# Altium footprint library 2440PCBV5.PcbLib: 136 footprints (part 4 of 9)
Each footprint in its own frame and in the unit in brackets; x right, y up, seen from the top. Pads: shape width x height; smd on the part's side, far side on the other; paste and mask are expansions set on the pad; w line width, h text height; cw(c..) or ccw(c..) is an arc to the next point about the centre after c.
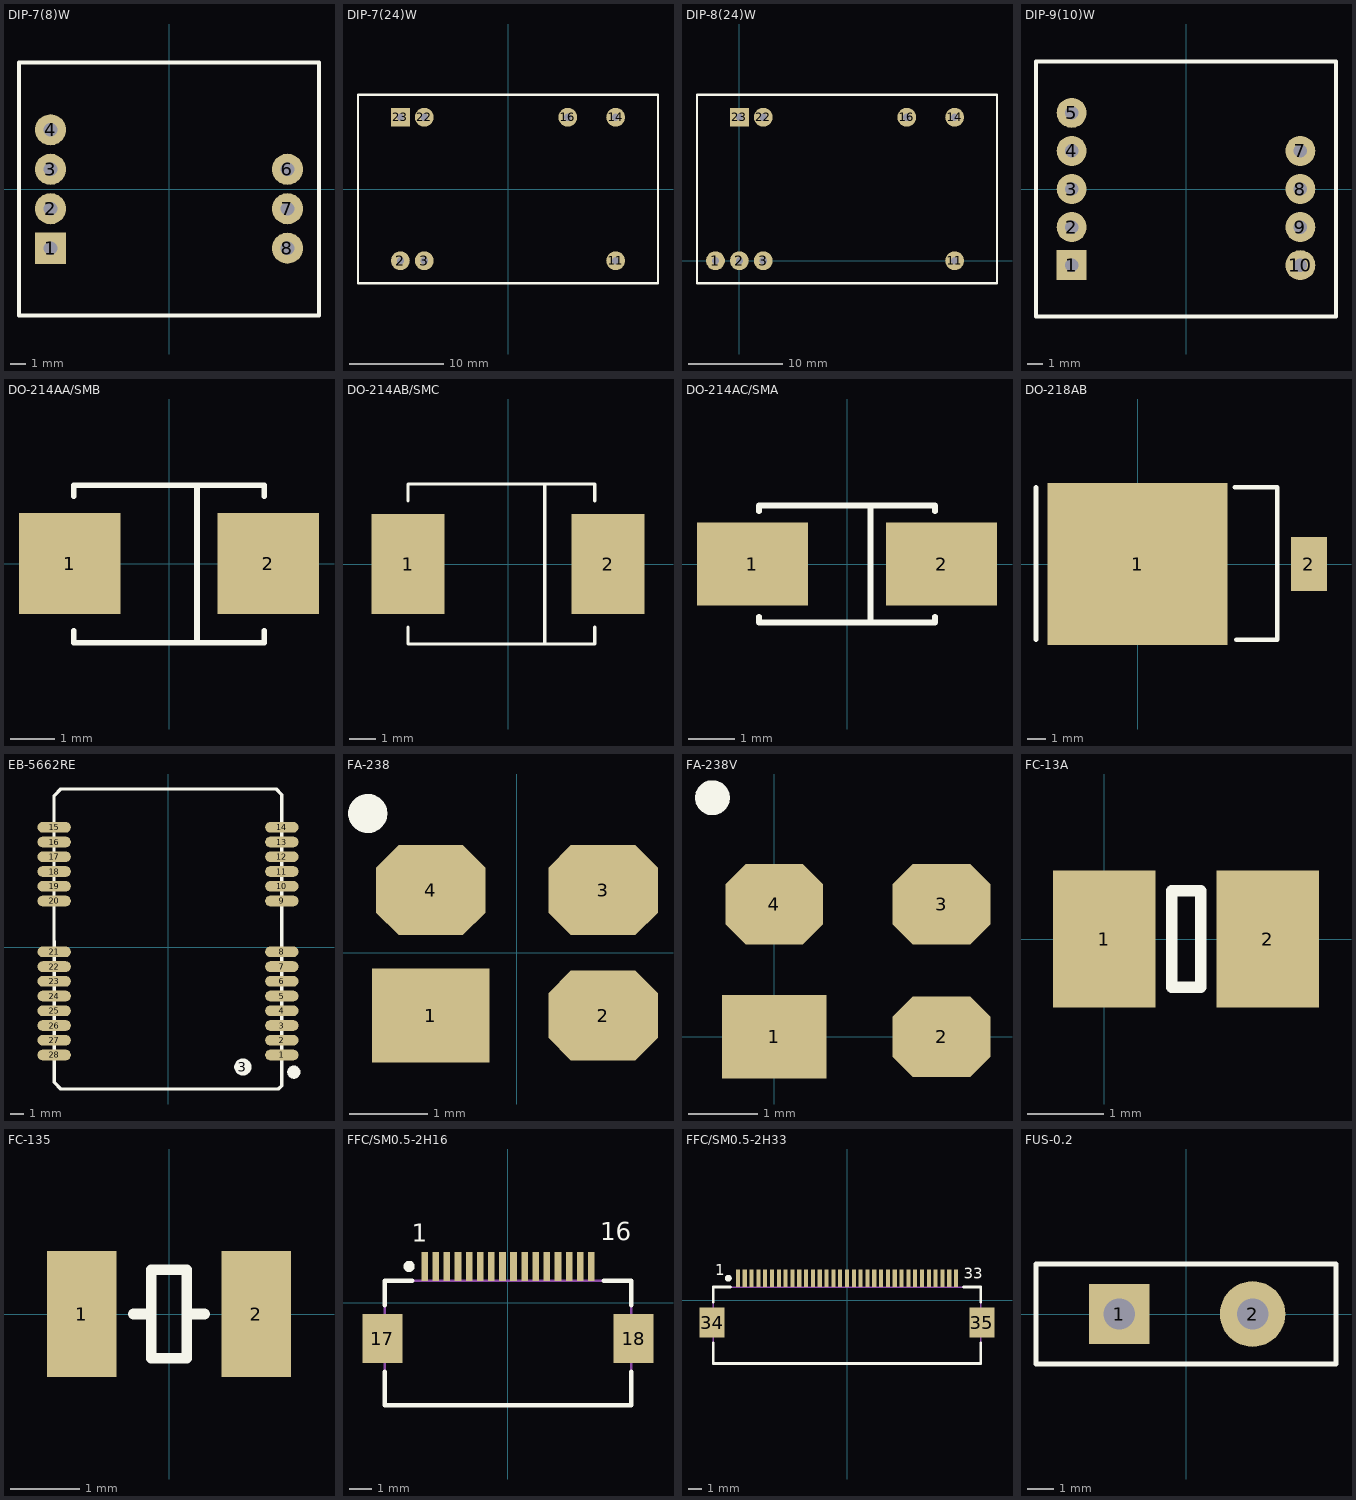
[diagram p3: the footprints below, top view; thin cyan lines are the x and y axes]

## DIP-7(8)W [mm] "DIP; 8 Leads; Row Spacing 15.24 mm; Pitch 2.54 mm"
pads (7):
  rect 2x2 hole 0.889: 1(-7.62,-3.81)
  round 2 hole 0.889: 2(-7.62,-1.27) 3(-7.62,1.27) 4(-7.62,3.81) 6(7.62,1.27) 7(7.62,-1.27) 8(7.62,-3.81)
Top Overlay:
  lines w0.254: -9.652,-8.128 -9.652,8.128 9.652,8.128 9.652,-8.128 -9.652,-8.128
3D body: height 7, standoff 0, extent -9.644,-8.124 9.645,8.151

## DIP-7(24)W [mm]
pads (7):
  round 2 hole 0.762: 2(-11.43,-7.62) 3(-8.89,-7.62) 11(11.43,-7.62) 14(11.43,7.62) 16(6.35,7.62) 22(-8.89,7.62)
  rect 2x2 hole 0.762: 23(-11.43,7.62)
Top Overlay:
  lines w0.254: -15.93,-10.02 -15.93,10.02 15.93,10.02 15.93,-10.02 -15.93,-10.02
Bottom Overlay:
  text "+5V" at 12.446,4.953 h0.8
  text "0V" at 6.985,4.826 h0.8
  text "Vin" at -9.525,4.826 h0.8
  text "GND" at -9.017,-5.715 h0.8
3D body: height 10, standoff 0, extent -15.97,-10.032 15.938,10.048

## DIP-8(24)W [mm]
height 10
pads (8):
  round 2 hole 0.762: 1(-2.54,0) 2(0,0) 3(2.54,0) 11(22.86,0) 14(22.86,15.24) 16(17.78,15.24) 22(2.54,15.24)
  rect 2x2 hole 0.762: 23(0,15.24)
Top Overlay:
  lines w0.254: -4.5,-2.4 -4.5,17.64 27.36,17.64 27.36,-2.4 -4.5,-2.4
Bottom Overlay:
  text "+5V" at 23.876,12.573 h0.8
  text "0V" at 18.415,12.446 h0.8
  text "Vin" at 1.905,12.446 h0.8
  text "GND" at 2.413,1.905 h0.8
3D body: height 10, standoff 0, extent -4.54,-2.412 27.368,17.668

## DIP-9(10)W [mm] "DIP; 10 Leads; Row Spacing 15.24 mm; Pitch 2.54 mm"
height 7.05
pads (9):
  rect 2x2 hole 0.889: 1(-7.62,-5.08)
  round 2 hole 0.889: 2(-7.62,-2.54) 3(-7.62,0) 4(-7.62,2.54) 5(-7.62,5.08) 7(7.62,2.54) 8(7.62,0) 9(7.62,-2.54) 10(7.62,-5.08)
Top Overlay:
  lines w0.254: -10,-8.5 -10,8.5 10,8.5 10,-8.5 -10,-8.5

## DO-214AA/SMB [mm] "DO-214-AA/SMB; 2 C-Bend Leads; Body 5.3 x 3.6 mm, inc. leads (LxW)"
height 2.54
pads (2):
  rect 2.3x2.3 smd: 1(-2.25,0) 2(2.25,0)
Top Overlay:
  lines w0.127: -2.159,-1.524 -2.159,-1.8 2.159,-1.8 2.159,-1.524 ; -2.159,1.524 -2.159,1.778 2.159,1.778 2.159,1.524 ; 0.635,-1.778 0.635,1.778
3D body: height 2.27, standoff -0.03, extent -2.7,-1.8 2.7,1.8

## DO-214AB/SMC [mil] "DO-214-AB/SMC; 2 C-Bend Leads; Body 7.9 x 5.9 mm, inc. leads (LxW)"
height 101.18
pads (2):
  rect 110x150 smd: 1(-150,0) 2(150,0)
Top Overlay:
  lines w5: -150,-95 -150,-120 130,-120 130,-95 ; -150,95 -150,120 130,120 130,95 ; 55,-120 55,120
Mechanical 15:
  lines w1: -150,-120 130,-120 ; -150,120 130,120
3D body: height 50, standoff -54, extent -170.01,-124.01 149.99,123.99

## DO-214AC/SMA [mm] "DO-214-AC/SMA; 2 C-Bend Leads; Body 5 x 2.7 mm, inc. leads (LxW)"
height 2.44
pads (2):
  rect 2.4x1.8 smd: 1(-2.05,0) 2(2.05,0)
Top Overlay:
  lines w0.127: -1.905,-1.143 -1.905,-1.27 1.905,-1.27 1.905,-1.143 ; -1.905,1.143 -1.905,1.27 1.905,1.27 1.905,1.143 ; 0.508,-1.27 0.508,1.27
3D body: height 2.38, standoff -0.03, extent -2.6,-1.3 2.6,1.3

## DO-218AB [mm]
pads (2):
  rect 10x9 smd: 1(0,0)
  rect 2x3 smd: 2(9.5,0)
Top Overlay:
  lines w0.254: -5.626,-4.191 -5.626,4.25 ; 5.393,4.25 7.747,4.25 7.747,-4.191 5.461,-4.191

## EB-5662RE [mm]
pads (30):
  oval 2.5x0.8 smd: 1(8.5,-8.051) 2(8.5,-6.951) 3(8.5,-5.851) 4(8.5,-4.751) 5(8.5,-3.651) 6(8.5,-2.551) 7(8.5,-1.451) 8(8.5,-0.351) 9(8.5,3.449) 10(8.5,4.549) 11(8.5,5.649) 12(8.5,6.749) 13(8.5,7.849) 14(8.5,8.949) 15(-8.5,8.949) 16(-8.5,7.849) 17(-8.5,6.749) 18(-8.5,5.649) 19(-8.5,4.549) 20(-8.5,3.449) 21(-8.5,-0.351) 22(-8.5,-1.451) 23(-8.5,-2.551) 24(-8.5,-3.651) 25(-8.5,-4.751) 26(-8.5,-5.851) 27(-8.5,-6.951) 28(-8.5,-8.051)
  round 1.3 on Top Overlay: 3(5.588,-8.949)
  round 1 on Top Overlay: ""(9.398,-9.33)
Top Overlay:
  lines w0.254: -8.509,10.922 -8.5,-9.906 -8.5,-10.101 -8.01,-10.591 8.246,-10.591 8.5,-10.337 8.5,11.38 8.071,11.809 7.992,11.809 -7.62,11.809 -8.003,11.809 -8.509,11.303 -8.509,10.922

## FA-238 [mm] "Quartz Crystal, SM; Body 3.4 x 2.7 mm (LxW max)"
height 1
pads (4):
  rect 1.5x1.2 smd: 1(-1.1,-0.8)
  oct 1.4x1.15 smd: 2(1.1,-0.8) 3(1.1,0.8) 4(-1.1,0.8)
Top Overlay:
  circle w0.25: c-1.903,1.778 r0.125

## FA-238V [mm] "Quartz Crystal, SM; Body 3.4 x 2.7 mm (LxW max)"
height 1
pads (4):
  rect 1.5x1.2 smd: 1(0,0)
  oct 1.4x1.15 smd: 2(2.4,0) 3(2.4,1.9) 4(0,1.9)
Top Overlay:
  circle w0.25: c-0.887,3.429 r0.125

## FC-13A [mm] "Quartz Crystal, SM; 2 Leads; Body 3.5 x 1.5 x 0.9mm (LxWxH)"
height 1
pads (2):
  rect 1.35x1.8 smd: 1(0,0) 2(2.15,0)
Top Overlay:
  lines w0.152: 0.889,-0.635 0.889,0.635 1.27,0.635 1.27,-0.635 0.889,-0.635

## FC-135 [mm] "Quartz Crystal, SM; 2 Leads; Body 3.5 x 1.5 x 0.8mm (LxWxH)"
height 0.8
pads (2):
  rect 1x1.8 smd: 1(-1.25,0) 2(1.25,0)
Top Overlay:
  lines w0.152: -0.508,0 -0.254,0 ; 0.254,0 0.508,0 ; -0.254,-0.635 -0.254,0.635 0.254,0.635 0.254,-0.635 -0.254,-0.635

## FFC/SM0.5-2H16 [mm]
height 2
pads (18):
  rect 0.3x1.3 smd: 1(-3.75,1.625) 2(-3.25,1.625) 3(-2.75,1.625) 4(-2.25,1.625) 5(-1.75,1.625) 6(-1.25,1.625) 7(-0.75,1.625) 8(-0.25,1.625) 9(0.25,1.625) 10(0.75,1.625) 11(1.25,1.625) 12(1.75,1.625) 13(2.25,1.625) 14(2.75,1.625) 15(3.25,1.625) 16(3.75,1.625)
  rect 1.8x2.2 smd: 17(-5.65,-1.625) 18(5.65,-1.625)
Top Overlay:
  circle w0.25: c-4.45,1.625 r0.125
  lines w0.2: -5.55,-3.125 -5.55,-4.625 5.55,-4.625 5.55,-3.125 ; -5.55,-0.125 -5.55,0.975 -4.3,0.975 ; 4.3,0.975 5.55,0.975 5.55,-0.125
  text "1" at -4.329,2.739 h0.8
  text "16" at 4.154,2.79 h0.8
Mechanical 13:
  lines w0.1: -5.55,-4.625 5.55,-4.625 5.55,0.975 -5.55,0.975 -5.55,-4.625
3D body: height 2, standoff 0, extent -5.55,-4.625 5.55,0.975

## FFC/SM0.5-2H33 [mm]
height 2
pads (35):
  rect 0.3x1.3 smd: 1(-8,1.625) 2(-7.5,1.625) 3(-7,1.625) 4(-6.5,1.625) 5(-6,1.625) 6(-5.5,1.625) 7(-5,1.625) 8(-4.5,1.625) 9(-4,1.625) 10(-3.5,1.625) 11(-3,1.625) 12(-2.5,1.625) 13(-2,1.625) 14(-1.5,1.625) 15(-1,1.625) 16(-0.5,1.625) 17(0,1.625) 18(0.5,1.625) 19(1,1.625) 20(1.5,1.625) 21(2,1.625) 22(2.5,1.625) 23(3,1.625) 24(3.5,1.625) 25(4,1.625) 26(4.5,1.625) 27(5,1.625) 28(5.5,1.625) 29(6,1.625) 30(6.5,1.625) 31(7,1.625) 32(7.5,1.625) 33(8,1.625)
  rect 1.8x2.2 smd: 34(-9.9,-1.625) 35(9.9,-1.625)
Top Overlay:
  circle w0.25: c-8.7,1.625 r0.125
  lines w0.2: -9.8,-3.125 -9.8,-4.625 9.8,-4.625 9.8,-3.125 ; -9.8,-0.125 -9.8,0.975 -8.55,0.975 ; 8.55,0.975 9.8,0.975 9.8,-0.125
  text "33" at 8.568,1.571 h0.8
  text "1" at -9.643,1.825 h0.8
Mechanical 13:
  lines w0.1: -9.8,-4.625 -9.8,0.975 9.8,0.975 9.8,-4.625 -9.8,-4.625
3D body: height 2, standoff 0, extent -9.8,-4.625 9.8,0.975

## FUS-0.2 [mm]
pads (2):
  rect 2.3x2.3 hole 1.2: 1(-2.54,0)
  round 2.5 hole 1.2: 2(2.54,0)
Top Overlay:
  lines w0.2: -5.715,-1.905 5.715,-1.905 5.715,1.905 -5.715,1.905 -5.715,-1.905